# Altium footprint library VREG_L7805CDTTR.PcbLib: 1 footprints
Each footprint in its own frame and in the unit in brackets; x right, y up, seen from the top. Pads: shape width x height; smd on the part's side, far side on the other; paste and mask are expansions set on the pad; w line width, h text height; cw(c..) or ccw(c..) is an arc to the next point about the centre after c.
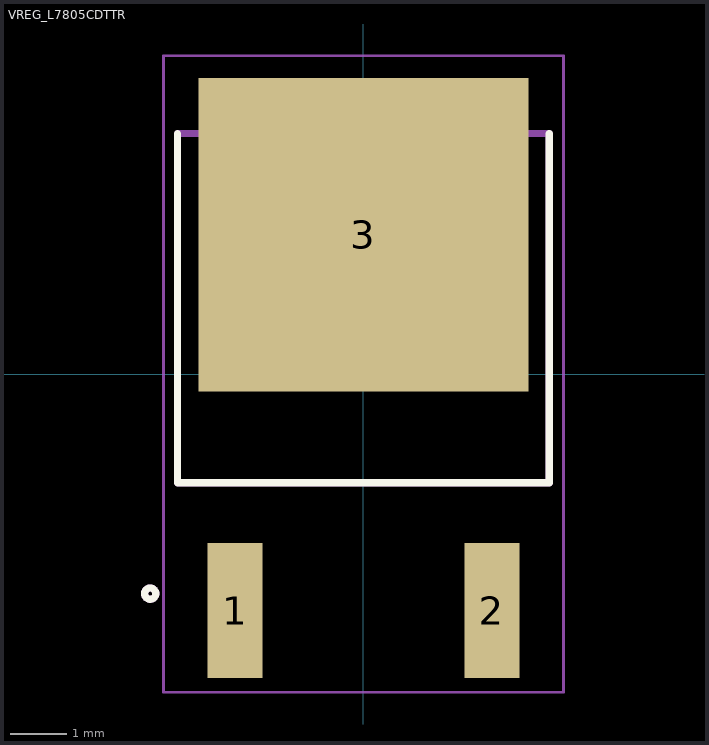
[diagram p0: the footprint, top view; thin cyan lines are the x and y axes]

## VREG_L7805CDTTR [mm]
pads (3):
  rect 0.98x2.4 smd: 1(-2.28,-4.2) 2(2.28,-4.2)
  rect 5.86x5.57 smd paste-4: 3(0,2.47)
Top Overlay:
  circle w0.127: c-3.786,-3.9 r0.1
  lines w0.127: -3.3,4.27 -3.3,-1.93 3.3,-1.93 3.3,4.27
Assembly Top:
  circle w0.127: c-3.786,-3.9 r0.1
  lines w0.127: -3.3,-1.93 3.3,-1.93 3.3,4.27 -3.3,4.27 -3.3,-1.93
Courtyard Top:
  lines w0.05: -3.55,-5.65 -3.55,5.65 3.55,5.65 3.55,-5.65 -3.55,-5.65
3D body "step_temp.STEP": height 2.17, standoff -0.23, extent -3.25,-4.743 3.25,4.982